# Altium schematic symbol library RELAY,SPST,16A,12V.Schlib: 1 symbol
Pins are listed as number, name and electrical type; pins without a type are passive.

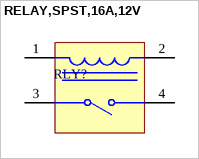
[diagram p0: symbol RELAY,SPST,16A,12V]

## RELAY,SPST,16A,12V
designator RLY?
pins: 1 COILP, 2 COILN, 3 C, 4 NO